# Altium footprint library FishWand_pcbLib.PcbLib: 35 footprints (part 3 of 3)
Each footprint in its own frame and in the unit in brackets; x right, y up, seen from the top. Pads: shape width x height; smd on the part's side, far side on the other; paste and mask are expansions set on the pad; w line width, h text height; cw(c..) or ccw(c..) is an arc to the next point about the centre after c.
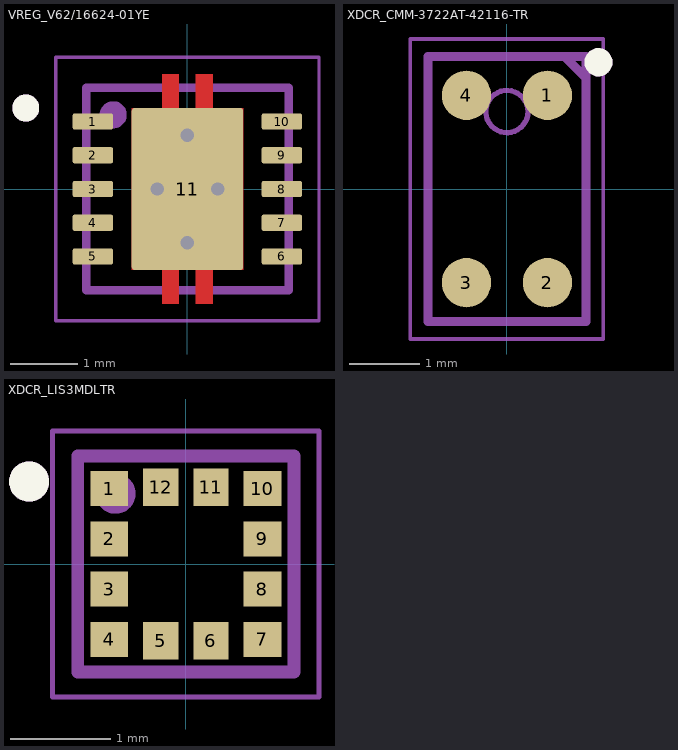
[diagram p2: the footprints below, top view; thin cyan lines are the x and y axes]

## VREG_V62/16624-01YE [mm]
pads (11):
  rrect25% 0.6x0.24 smd mask+0: 1(-1.4,1) 2(-1.4,0.5) 3(-1.4,0) 4(-1.4,-0.5) 5(-1.4,-1) 6(1.4,-1) 7(1.4,-0.5) 8(1.4,0) 9(1.4,0.5) 10(1.4,1)
  rrect5% 1.65x2.4 smd paste-2 mask+0: 11(0,0)
via 0,0.8 diameter 0.5 hole 0.2
via 0.45,0 diameter 0.5 hole 0.2
via -0.45,0 diameter 0.5 hole 0.2
via 0,-0.8 diameter 0.5 hole 0.2
Top Layer:
  region: 0.375,1.2 0.825,1.2 0.825,-1.2 0.375,-1.2 0.375,-1.7 0.125,-1.7 0.125,-1.2 -0.125,-1.2 -0.125,-1.7 -0.375,-1.7 -0.375,-1.2 -0.825,-1.2 -0.825,1.2 -0.375,1.2 -0.375,1.7 -0.125,1.7 -0.125,1.2 0.125,1.2 0.125,1.7 0.375,1.7
Top Overlay:
  circle w0.2: c-2.395,1.2 r0.1
Top Paste:
  region: -0.125,-1.7 -0.375,-1.7 -0.375,-1.36 -0.125,-1.36
  region: 0.375,-1.7 0.125,-1.7 0.125,-1.36 0.375,-1.36
  region: -0.125,1.36 -0.375,1.36 -0.375,1.7 -0.125,1.7
  region: 0.375,1.36 0.125,1.36 0.125,1.7 0.375,1.7
  region: 0.75,-1.16 -0.75,-1.16 -0.75,-0.1 0.75,-0.1
  region: 0.75,0.1 -0.75,0.1 -0.75,1.16 0.75,1.16
Top Solder:
  region: -1.03,0.81 -1.77,0.81 -1.77,1.19 -1.03,1.19
  region: -1.03,0.31 -1.77,0.31 -1.77,0.69 -1.03,0.69
  region: -1.03,-0.19 -1.77,-0.19 -1.77,0.19 -1.03,0.19
  region: -1.03,-0.69 -1.77,-0.69 -1.77,-0.31 -1.03,-0.31
  region: -1.03,-1.19 -1.77,-1.19 -1.77,-0.81 -1.03,-0.81
  region: 1.77,-1.19 1.03,-1.19 1.03,-0.81 1.77,-0.81
  region: 1.77,-0.69 1.03,-0.69 1.03,-0.31 1.77,-0.31
  region: 1.77,-0.19 1.03,-0.19 1.03,0.19 1.77,0.19
  region: 1.77,0.31 1.03,0.31 1.03,0.69 1.77,0.69
  region: 1.77,0.81 1.03,0.81 1.03,1.19 1.77,1.19
  region: 0.445,1.27 0.895,1.27 0.895,-1.27 0.445,-1.27 0.445,-1.77 0.055,-1.77 0.055,-1.27 -0.055,-1.27 -0.055,-1.77 -0.445,-1.77 -0.445,-1.27 -0.895,-1.27 -0.895,1.27 -0.445,1.27 -0.445,1.77 -0.055,1.77 -0.055,1.27 0.055,1.27 0.055,1.77 0.445,1.77
Assembly Text Top:
  text ".Designator" at -0.8,-0.4 h1.25
Assembly Top:
  circle w0.2: c-1.1,1.1 r0.1
  lines w0.127: -1.5,-1.5 -1.5,1.5 1.5,1.5 1.5,-1.5 -1.5,-1.5
3D Top:
  circle w0.2: c-2.395,1.2 r0.1
  lines w0.127: -1.5,-1.5 1.5,-1.5 1.5,1.5 -1.5,1.5 -1.5,-1.5
Courtyard Top:
  lines w0.05: -1.95,-1.95 1.95,-1.95 1.95,1.95 -1.95,1.95 -1.95,-1.95
3D body: height 1, standoff 0, extent -1.5,-1.5 1.5,1.5

## XDCR_CMM-3722AT-42116-TR [mm]
pads (4):
  round 0.7 smd: 1(0.575,1.33) 2(0.575,-1.33) 3(-0.575,-1.33) 4(-0.575,1.33)
Top Overlay:
  circle w0.2: c1.3,1.8 r0.1
Assembly Text Top:
  text ".Designator" at 0.1,-1.1 h1.25
Assembly Top:
  circle w0.075: c0,1.1 r0.3
  lines w0.127: -1.12,-1.88 1.12,-1.88 1.12,1.58 0.82,1.88 -1.12,1.88 -1.12,-1.88
3D Top:
  circle w0.2: c1.3,1.8 r0.1
  lines w0.127: -1.12,-1.88 -1.12,1.88 1.12,1.88 1.12,-1.88 -1.12,-1.88
Courtyard Top:
  lines w0.05: -1.37,-2.13 -1.37,2.13 1.37,2.13 1.37,-2.13 -1.37,-2.13
3D body: height 1.1, standoff 0, extent -1.12,-1.88 1.12,1.88

## XDCR_LIS3MDLTR [mm]
pads (12):
  rect 0.375x0.35 smd mask+0: 1(-0.763,0.75) 2(-0.763,0.25) 3(-0.763,-0.25) 4(-0.763,-0.75) 7(0.763,-0.75) 8(0.763,-0.25) 9(0.763,0.25) 10(0.763,0.75)
  rect 0.35x0.375 smd mask+0: 5(-0.25,-0.763) 6(0.25,-0.763) 11(0.25,0.763) 12(-0.25,0.763)
Top Overlay:
  circle w0.2: c-1.56,0.82 r0.1
Top Solder:
  region: 0.475,-1 0.025,-1 0.025,-0.525 0.475,-0.525
  region: 0.475,0.525 0.025,0.525 0.025,1 0.475,1
  region: -0.025,0.525 -0.475,0.525 -0.475,1 -0.025,1
  region: -0.025,-1 -0.475,-1 -0.475,-0.525 -0.025,-0.525
  region: 1,-0.975 0.525,-0.975 0.525,-0.525 1,-0.525
  region: 1,-0.475 0.525,-0.475 0.525,-0.025 1,-0.025
  region: 1,0.025 0.525,0.025 0.525,0.475 1,0.475
  region: -0.525,-0.975 -1,-0.975 -1,-0.525 -0.525,-0.525
  region: -0.525,-0.475 -1,-0.475 -1,-0.025 -0.525,-0.025
  region: -0.525,0.025 -1,0.025 -1,0.475 -0.525,0.475
  region: -0.525,0.525 -1,0.525 -1,0.975 -0.525,0.975
  region: 1,0.525 0.525,0.525 0.525,0.975 1,0.975
Assembly Text Top:
  text ".Designator" at -0.7,-0.3 h1.25
Assembly Top:
  circle w0.2: c-0.7,0.7 r0.1
  lines w0.127: -1.075,-1.075 -1.075,1.075 1.075,1.075 1.075,-1.075 -1.075,-1.075
3D Top:
  circle w0.2: c-1.56,0.82 r0.1
  lines w0.127: -1.075,-1.075 1.075,-1.075 1.075,1.075 -1.075,1.075 -1.075,-1.075
Courtyard Top:
  lines w0.05: -1.325,-1.325 1.325,-1.325 1.325,1.325 -1.325,1.325 -1.325,-1.325
3D body: height 0.85, standoff 0, extent -1.075,-1.075 1.075,1.075